# Altium schematic symbol library micro USB.SchLib: 1 symbol
Pins are listed as number, name and electrical type; pins without a type are passive.

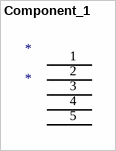
[diagram p0: symbol Component_1]

## Component_1
designator *
footprint PQFN50P900X900X900_HS-21N (PQFN, 20-Leads, Body 9.00x9.00mm, Pitch 2.54mm/0.50mm, Thermal Pad 4.00x2.20mm, IPC Medium Density)
pins: 1, 2, 3, 4, 5